# Altium footprint library DISCRETE_T1.PcbLib: 293 footprints (part 2 of 19)
Each footprint in its own frame and in the unit in brackets; x right, y up, seen from the top. Pads: shape width x height; smd on the part's side, far side on the other; paste and mask are expansions set on the pad; w line width, h text height; cw(c..) or ccw(c..) is an arc to the next point about the centre after c.
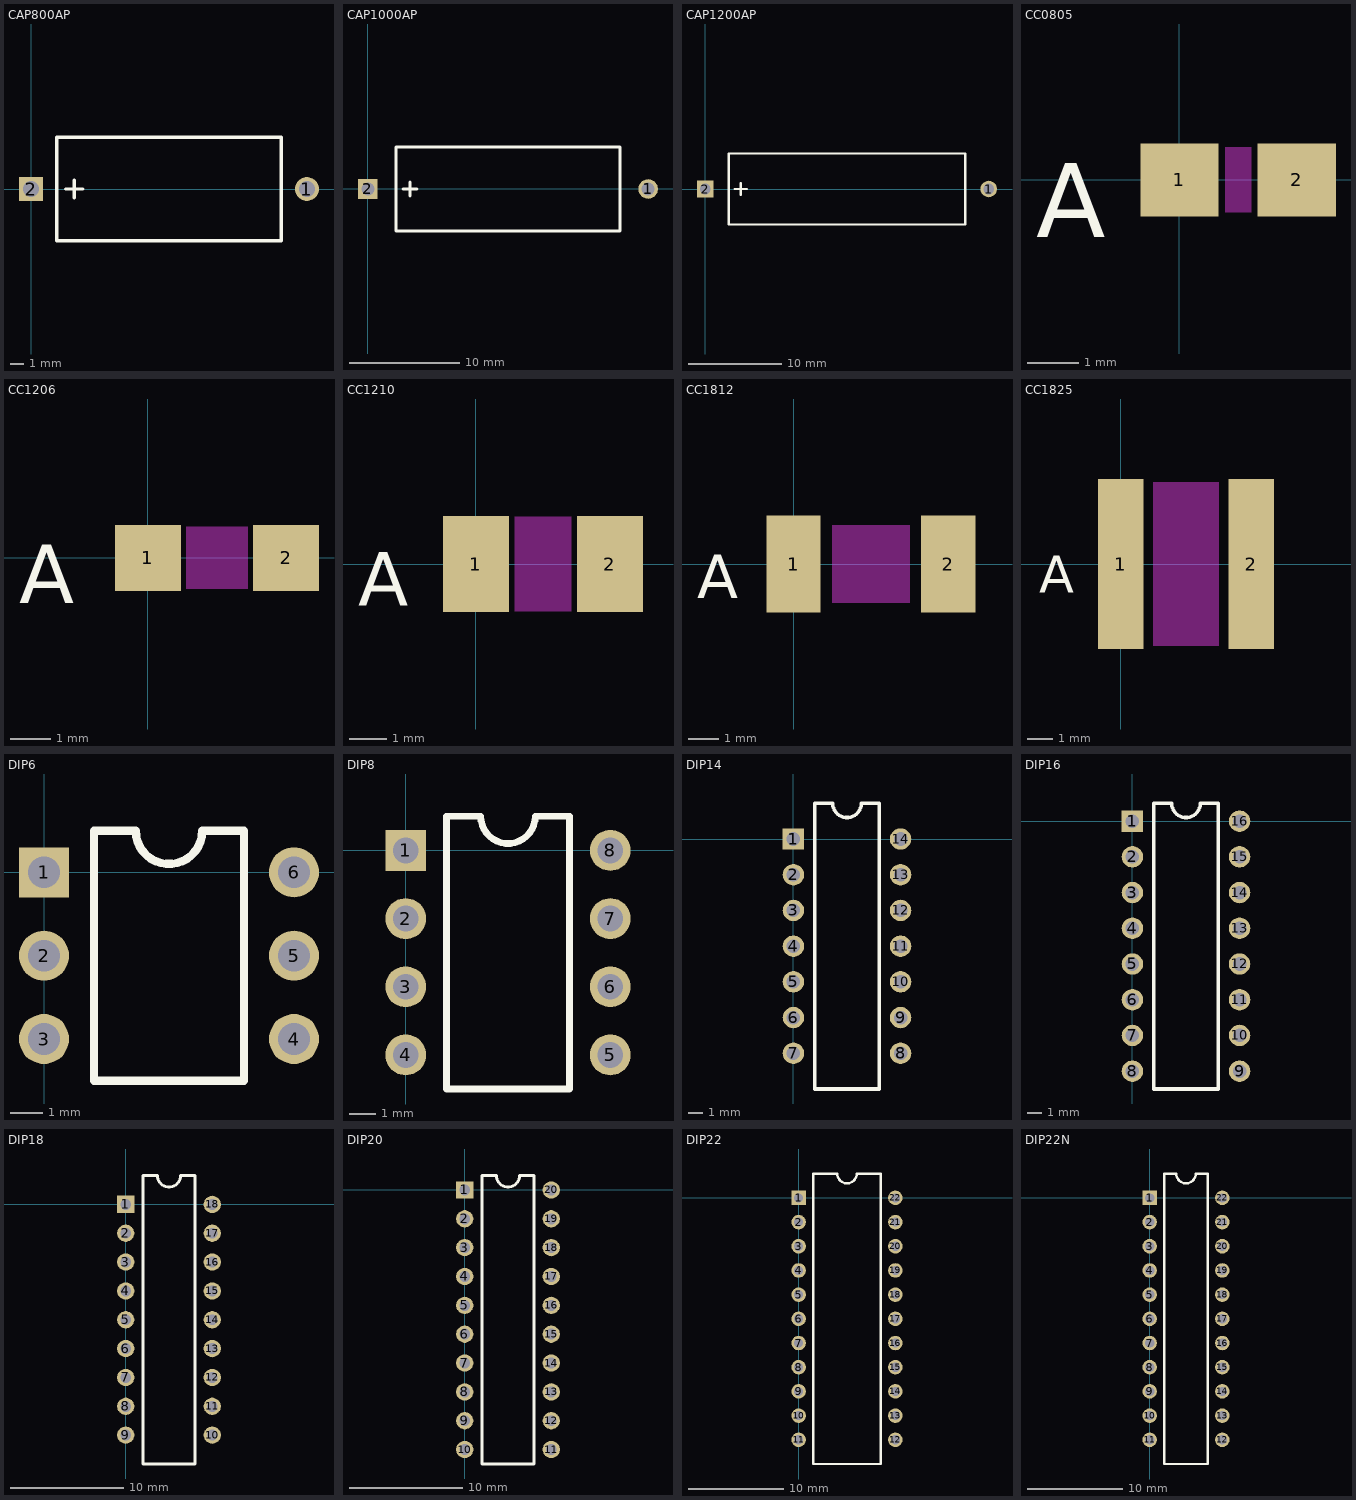
[diagram p1: the footprints below, top view; thin cyan lines are the x and y axes]

## CAP800AP [mil]
pads (2):
  round 70 hole 46: 1(800,0)
  rect 70x70 hole 46: 2(0,0)
Top Overlay:
  lines w10: 100,0 150,0 ; 125,-25 125,25 ; 75,-150 75,150 725,150 725,-150 75,-150

## CAP1000AP [mil]
pads (2):
  round 70 hole 46: 1(1000,0)
  rect 70x70 hole 46: 2(0,0)
Top Overlay:
  lines w10: 125,0 175,0 ; 150,-25 150,25 ; 100,-150 900,-150 900,150 100,150 100,-150

## CAP1200AP [mil]
pads (2):
  round 70 hole 46: 1(1200,0)
  rect 70x70 hole 46: 2(0,0)
Top Overlay:
  lines w10: 125,0 175,0 ; 150,-25 150,25 ; 100,-150 100,150 1100,150 1100,-150 100,-150

## CC0805 [mil]
pads (2):
  rect 60x56 smd: 1(0,0) 2(90,0)
Top Overlay:
  text "A" at -110,-44 h56.88
Multi-Layer keep-out:
  region: 55,-25 55,25 35,25 35,-25

## CC1206 [mil]
pads (2):
  rect 64x64 smd: 1(0,0) 2(134,0)
Top Overlay:
  text "A" at -125,-44 h56.88
Multi-Layer keep-out:
  region: 97,-30 97,30 37,30 37,-30

## CC1210 [mil]
pads (2):
  rect 70x102 smd: 1(0,0) 2(142,0)
Top Overlay:
  text "A" at -125,-44 h56.88
Multi-Layer keep-out:
  region: 101,-50 101,50 41,50 41,-50

## CC1812 [mil]
pads (2):
  rect 70x126 smd: 1(0,0) 2(200,0)
Top Overlay:
  text "A" at -125,-44 h56.88
Multi-Layer keep-out:
  region: 150,-50 150,50 50,50 50,-50

## CC1825 [mil]
pads (2):
  rect 70x260 smd: 1(0,0) 2(200,0)
Top Overlay:
  text "A" at -125,-44 h56.88
Multi-Layer keep-out:
  region: 150,-125 150,125 50,125 50,-125

## DIP6 [mil]
pads (6):
  rect 60x60 hole 38: 1(0,0)
  round 60 hole 38: 2(0,-100) 3(0,-200) 4(300,-200) 5(300,-100) 6(300,0)
Top Overlay:
  lines w10: 60,-250 240,-250 240,50 190,50 cw(c150,50) 110,50 60,50 60,-250

## DIP8 [mil]
pads (8):
  rect 60x60 hole 38: 1(0,0)
  round 60 hole 38: 2(0,-100) 3(0,-200) 4(0,-300) 5(300,-300) 6(300,-200) 7(300,-100) 8(300,0)
Top Overlay:
  lines w10: 60,-350 60,50 110,50 ccw(c150,50) 190,50 240,50 240,-350 60,-350

## DIP14 [mil]
pads (14):
  rect 60x60 hole 38: 1(0,0)
  round 60 hole 38: 2(0,-100) 3(0,-200) 4(0,-300) 5(0,-400) 6(0,-500) 7(0,-600) 8(300,-600) 9(300,-500) 10(300,-400) 11(300,-300) 12(300,-200) 13(300,-100) 14(300,0)
Top Overlay:
  lines w10: 60,-700 60,100 110,100 ccw(c150,100) 190,100 240,100 240,-700 60,-700

## DIP16 [mil]
pads (16):
  rect 60x60 hole 38: 1(0,0)
  round 60 hole 38: 2(0,-100) 3(0,-200) 4(0,-300) 5(0,-400) 6(0,-500) 7(0,-600) 8(0,-700) 9(300,-700) 10(300,-600) 11(300,-500) 12(300,-400) 13(300,-300) 14(300,-200) 15(300,-100) 16(300,0)
Top Overlay:
  lines w10: 60,-750 60,50 110,50 ccw(c150,50) 190,50 240,50 240,-750 60,-750

## DIP18 [mil]
pads (18):
  rect 60x60 hole 38: 1(0,0)
  round 60 hole 38: 2(0,-100) 3(0,-200) 4(0,-300) 5(0,-400) 6(0,-500) 7(0,-600) 8(0,-700) 9(0,-800) 10(300,-800) 11(300,-700) 12(300,-600) 13(300,-500) 14(300,-400) 15(300,-300) 16(300,-200) 17(300,-100) 18(300,0)
Top Overlay:
  lines w10: 60,-900 60,100 110,100 ccw(c150,100) 190,100 240,100 240,-900 60,-900

## DIP20 [mil]
pads (20):
  rect 60x60 hole 38: 1(0,0)
  round 60 hole 38: 2(0,-100) 3(0,-200) 4(0,-300) 5(0,-400) 6(0,-500) 7(0,-600) 8(0,-700) 9(0,-800) 10(0,-900) 11(300,-900) 12(300,-800) 13(300,-700) 14(300,-600) 15(300,-500) 16(300,-400) 17(300,-300) 18(300,-200) 19(300,-100) 20(300,0)
Top Overlay:
  lines w10: 60,-950 60,50 110,50 ccw(c150,50) 190,50 240,50 240,-950 60,-950

## DIP22 [mil]
pads (22):
  rect 60x60 hole 38: 1(0,0)
  round 60 hole 38: 2(0,-100) 3(0,-200) 4(0,-300) 5(0,-400) 6(0,-500) 7(0,-600) 8(0,-700) 9(0,-800) 10(0,-900) 11(0,-1000) 12(400,-1000) 13(400,-900) 14(400,-800) 15(400,-700) 16(400,-600) 17(400,-500) 18(400,-400) 19(400,-300) 20(400,-200) 21(400,-100) 22(400,0)
Top Overlay:
  lines w10: 60,-1100 60,100 160,100 ccw(c200,100) 240,100 340,100 340,-1100 60,-1100

## DIP22N [mil]
pads (22):
  rect 60x60 hole 38: 1(0,0)
  round 60 hole 38: 2(0,-100) 3(0,-200) 4(0,-300) 5(0,-400) 6(0,-500) 7(0,-600) 8(0,-700) 9(0,-800) 10(0,-900) 11(0,-1000) 12(300,-1000) 13(300,-900) 14(300,-800) 15(300,-700) 16(300,-600) 17(300,-500) 18(300,-400) 19(300,-300) 20(300,-200) 21(300,-100) 22(300,0)
Top Overlay:
  lines w10: 60,-1100 60,100 110,100 ccw(c150,100) 190,100 240,100 240,-1100 60,-1100